# EAGLE library part LM46002 (library GaN_Fet_ESC_V0.2)
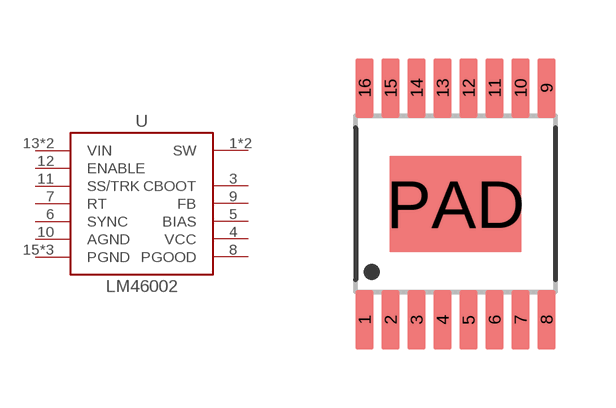
[diagram p4: symbol with the pads of TSS0P16-PAD; footprint TSS0P16-PAD]

Designator prefix U

## LM46002  [TSS0P16-PAD]
1  SW
2  SW
3  CBOOT
4  VCC
5  BIAS
6  SYNC
7  RT
8  PGOOD
9  FB
10  AGND
11  SS/TRK
12  ENABLE
13  VIN
14  VIN
15  PGND
16  PGND
PAD  PGND

## Footprint TSS0P16-PAD (pad centres in mm)
smd 0.45 x 1.5: 1 -2.275,-2.9; 2 -1.625,-2.9; 3 -0.975,-2.9; 4 -0.325,-2.9; 5 0.325,-2.9; 6 0.975,-2.9; 7 1.625,-2.9; 8 2.275,-2.9; 9 2.275,2.9; 10 1.625,2.9; 11 0.975,2.9; 12 0.325,2.9; 13 -0.325,2.9; 14 -0.975,2.9; 15 -1.625,2.9; 16 -2.275,2.9
smd 3.29 x 2.41: PAD 0,0